# Altium footprint library GCMLibreriasPCB.PcbLib: 49 footprints (part 1 of 4)
Each footprint in its own frame and in the unit in brackets; x right, y up, seen from the top. Pads: shape width x height; smd on the part's side, far side on the other; paste and mask are expansions set on the pad; w line width, h text height; cw(c..) or ccw(c..) is an arc to the next point about the centre after c.
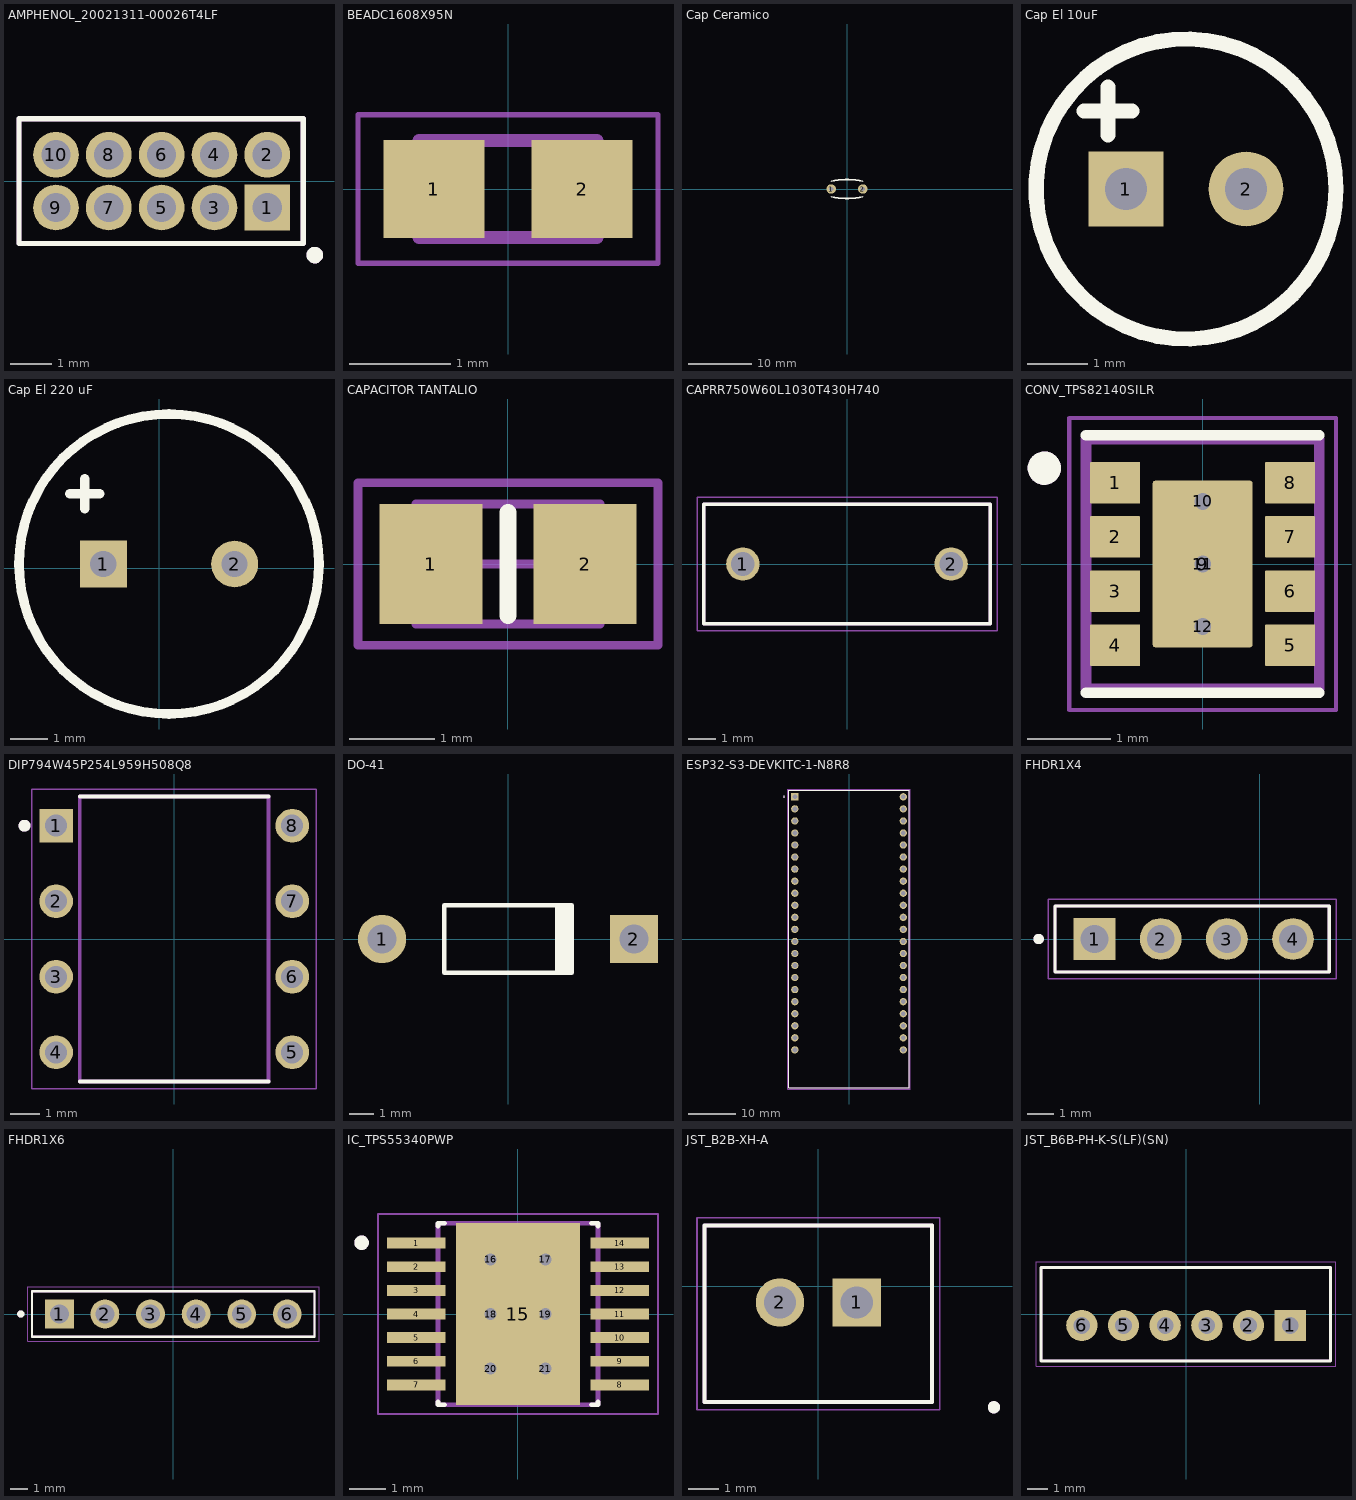
[diagram p0: the footprints below, top view; thin cyan lines are the x and y axes]

## AMPHENOL_20021311-00026T4LF [mm]
pads (10):
  rect 1.1x1.1 / inner round 1.1 / far side rect 1.1x1.1 hole 0.7: 1(7.62,-0.635)
  round 1.1 hole 0.7: 2(7.62,0.635) 3(6.35,-0.635) 4(6.35,0.635) 5(5.08,-0.635) 6(5.08,0.635) 7(3.81,-0.635) 8(3.81,0.635) 9(2.54,-0.635) 10(2.54,0.635)
Top Overlay:
  circle w0.2: c8.763,-1.778 r0.1
  lines w0.127: 1.651,-1.5 1.651,1.5 8.485,1.5 8.485,-1.5 1.651,-1.5
Mechanical 13:
  circle w0.2: c8.763,-1.778 r0.1
  lines w0.127: 1.651,-1.5 1.651,1.5 8.485,1.5 8.485,-1.5 1.651,-1.5

## BEADC1608X95N [mm]
pads (2):
  rect 1x0.97 smd: 1(-0.735,0) 2(0.735,0)
Mechanical 13:
  lines w0.127: -0.88,-0.48 0.88,-0.48 0.88,0.48 -0.88,0.48 -0.88,-0.48
Mechanical 15:
  lines w0.05: -1.485,-0.735 1.485,-0.735 1.485,0.735 -1.485,0.735 -1.485,-0.735
3D body "step_temp.STEP": height 0.95, standoff 0, extent -0.8,-0.4 0.8,0.4

## Cap Ceramico [mm]
pads (2):
  round 1.5 hole 0.7: 1(-2.5,0) 2(2.5,0)
Top Overlay:
  lines w0.254: -2.5,-1.25 ccw(c0,11.125) 2.5,-1.25 ; -2.5,1.25 cw(c0,-11.125) 2.5,1.25

## Cap El 10uF [mm]
pads (2):
  rect 1.25x1.25 hole 0.7: 1(61.5,-62.5)
  round 1.25 hole 0.7: 2(63.5,-62.5)
Top Overlay:
  circle w0.254: c62.5,-62.5 r2.5
  lines w0.254: 60.8,-61.2 61.6,-61.2 ; 61.2,-61.6 61.2,-60.8
3D body: height 1.27, standoff 0, extent 60.01,-64.98 65.01,-59.986

## Cap El 220 uF [mm]
pads (2):
  rect 1.25x1.25 hole 0.7: 1(-1.49,0.11)
  round 1.25 hole 0.7: 2(2.01,0.11)
Top Overlay:
  circle w0.254: c0.26,0.11 r4
  lines w0.254: -2.39,1.98 -1.59,1.98 ; -1.99,1.58 -1.99,2.38
3D body: height 1.27, standoff 0, extent -3.71,-3.947 4.29,4.047

## CAPACITOR TANTALIO [mm]
pads (2):
  rect 1.2x1.4 smd: 1(-0.9,0) 2(0.9,0)
Top Overlay:
  lines w0.2: 0,-0.6 0,0.6
Mechanical 13:
  lines w0.1: -1.075,-0.7 1.075,-0.7 1.075,0.7 -1.075,0.7 -1.075,-0.7
Mechanical 15:
  lines w0.1: -0.5,0 0.5,0 ; 0,-0.5 0,0.5 ; -1.75,-0.95 1.75,-0.95 1.75,0.95 -1.75,0.95 -1.75,-0.95
3D body "T494A106M010AT.STEP": height 1.8, standoff 0, extent -1.588,-0.788 1.612,0.812

## CAPRR750W60L1030T430H740 [mm]
pads (2):
  round 1.2 hole 0.85: 1(-3.75,0) 2(3.75,0)
Top Overlay:
  lines w0.127: -5.15,-2.15 -5.15,2.15 5.15,2.15 5.15,-2.15 -5.15,-2.15
Mechanical 13:
  lines w0.127: -5.15,-2.15 5.15,-2.15 5.15,2.15 -5.15,2.15 -5.15,-2.15
Mechanical 15:
  lines w0.05: -5.4,-2.4 5.4,-2.4 5.4,2.4 -5.4,2.4 -5.4,-2.4

## CONV_TPS82140SILR [mm]
pads (12):
  rrect5% 0.6x0.5 smd paste-1 mask+0: 1(-1.05,0.975) 2(-1.05,0.325) 3(-1.05,-0.325) 4(-1.05,-0.975) 5(1.05,-0.975) 6(1.05,-0.325) 7(1.05,0.325) 8(1.05,0.975)
  rrect5% 1.2x2 smd paste-2 mask+0: 9(0,0)
  round 0.3 hole 0.2 mask+0: 10(0,0.75) 11(0,0) 12(0,-0.75)
Top Overlay:
  circle w0.2: c-1.9,1.15 r0.1
  lines w0.127: -1.4,-1.545 1.4,-1.545 ; -1.4,1.545 1.4,1.545
Top Paste:
  drawing of 10 lines, arcs and shapes, not listed
Top Solder:
  drawing of 9 lines, arcs and shapes, not listed
Mechanical 13:
  circle w0.2: c-1.9,1.15 r0.1
  lines w0.127: -1.4,-1.5 1.4,-1.5 1.4,1.5 -1.4,1.5 -1.4,-1.5
Mechanical 15:
  lines w0.05: -1.6,-1.75 1.6,-1.75 1.6,1.75 -1.6,1.75 -1.6,-1.75
3D body "step_temp.STEP": height 1.53, standoff 0, extent -1.5,-1.4 1.5,1.4

## DIP794W45P254L959H508Q8 [mm]
height 5.08
pads (8):
  rect 1.13x1.13 / inner round 1.13 / far side rect 1.13x1.13 hole 0.74 mask+0.102: 1(-3.97,3.81)
  round 1.13 hole 0.74 mask+0.102: 2(-3.97,1.27) 3(-3.97,-1.27) 4(-3.97,-3.81) 5(3.97,-3.81) 6(3.97,-1.27) 7(3.97,1.27) 8(3.97,3.81)
Top Overlay:
  circle w0.2: c-5.035,3.81 r0.1
  lines w0.127: -3.175,-4.795 3.175,-4.795 ; -3.175,4.795 3.175,4.795
Mechanical 13:
  circle w0.2: c-5.035,3.81 r0.1
  lines w0.127: -3.175,-4.795 -3.175,4.795 3.175,4.795 3.175,-4.795 -3.175,-4.795
Mechanical 15:
  lines w0.05: -4.785,-5.045 -4.785,5.045 4.785,5.045 4.785,-5.045 -4.785,-5.045
3D body "step_temp.STEP": height 5.08, standoff -3.18, extent -4.095,-4.795 4.095,4.795

## DO-41 [mm] "Diode, Axial; Body 5.2 x 2.7 mm (LxDia. max), Lead Dia. 0.86 mm (max)"
height 2.8
pads (2):
  round 2 hole 1.2: 1(-5.23,0)
  rect 2x2 hole 1.2: 2(5.23,0)
Top Overlay:
  rectangle: 1.95,-1.4 2.75,1.4
  lines w0.2: 2.65,-1.4 -2.65,-1.4 -2.65,1.4 2.65,1.4

## ESP32-S3-DEVKITC-1-N8R8 [mm]
pads (44):
  rect 1.53x1.53 / inner round 1.53 / far side rect 1.53x1.53 hole 1.02: J1_1(-11.43,29.97)
  round 1.53 hole 1.02: J1_2(-11.43,27.43) J1_3(-11.43,24.89) J1_4(-11.43,22.35) J1_5(-11.43,19.81) J1_6(-11.43,17.27) J1_7(-11.43,14.73) J1_8(-11.43,12.19) J1_9(-11.43,9.65) J1_10(-11.43,7.11) J1_11(-11.43,4.57) J1_12(-11.43,2.03) J1_13(-11.43,-0.51) J1_14(-11.43,-3.05) J1_15(-11.43,-5.59) J1_16(-11.43,-8.13) J1_17(-11.43,-10.67) J1_18(-11.43,-13.21) J1_19(-11.43,-15.75) J1_20(-11.43,-18.29) J1_21(-11.43,-20.83) J1_22(-11.43,-23.37) J3_1(11.43,29.97) J3_2(11.43,27.43) J3_3(11.43,24.89) J3_4(11.43,22.35) J3_5(11.43,19.81) J3_6(11.43,17.27) J3_7(11.43,14.73) J3_8(11.43,12.19) J3_9(11.43,9.65) J3_10(11.43,7.11) J3_11(11.43,4.57) J3_12(11.43,2.03) J3_13(11.43,-0.51) J3_14(11.43,-3.05) J3_15(11.43,-5.59) J3_16(11.43,-8.13) J3_17(11.43,-10.67) J3_18(11.43,-13.21) J3_19(11.43,-15.75) J3_20(11.43,-18.29) J3_21(11.43,-20.83) J3_22(11.43,-23.37)
Top Overlay:
  circle w0.2: c-13.716,29.972 r0.1
  lines w0.127: -12.7,-31.37 -12.7,31.37 12.7,31.37 12.7,-31.37 -12.7,-31.37
Mechanical 13:
  circle w0.2: c-13.716,29.972 r0.1
  lines w0.127: -12.7,-31.37 -12.7,31.37 12.7,31.37 12.7,-31.37 -12.7,-31.37
Mechanical 15:
  lines w0.05: -12.95,-31.62 -12.95,31.62 12.95,31.62 12.95,-31.62 -12.95,-31.62
3D body "step_temp.STEP": height 7.39, standoff -6, extent -12.7,-31.96 12.7,37.68

## FHDR1X4 [mm]
pads (4):
  rect 1.605x1.605 / inner round 1.605 / far side rect 1.605x1.605 hole 1.07: 1(-6.35,0)
  round 1.605 hole 1.07: 2(-3.81,0) 3(-1.27,0) 4(1.27,0)
Top Overlay:
  circle w0.2: c-8.5,0 r0.1
  lines w0.127: -7.87,-1.27 2.667,-1.27 2.667,1.27 -7.87,1.27 -7.87,-1.27
Mechanical 13:
  circle w0.2: c-8.5,0 r0.1
  lines w0.127: -7.87,-1.27 2.667,-1.27 2.667,1.27 -7.87,1.27 -7.87,-1.27
Mechanical 15:
  lines w0.05: -8.12,-1.52 2.921,-1.52 2.921,1.52 -8.12,1.52 -8.12,-1.52

## FHDR1X6 [mm]
pads (6):
  rect 1.605x1.605 / inner round 1.605 / far side rect 1.605x1.605 hole 1.07: 1(-6.35,0)
  round 1.605 hole 1.07: 2(-3.81,0) 3(-1.27,0) 4(1.27,0) 5(3.81,0) 6(6.35,0)
Top Overlay:
  circle w0.2: c-8.5,0 r0.1
  lines w0.127: -7.87,-1.27 7.87,-1.27 7.87,1.27 -7.87,1.27 -7.87,-1.27
Mechanical 13:
  circle w0.2: c-8.5,0 r0.1
  lines w0.127: -7.87,-1.27 7.87,-1.27 7.87,1.27 -7.87,1.27 -7.87,-1.27
Mechanical 15:
  lines w0.05: -8.12,-1.52 8.12,-1.52 8.12,1.52 -8.12,1.52 -8.12,-1.52
3D body "step_temp.STEP": height 8.51, standoff -3.2, extent -7.874,-1.27 7.874,1.27

## IC_TPS55340PWP [mm]
pads (21):
  rect 1.6x0.3 smd paste-0.025: 1(-2.8,1.95) 2(-2.8,1.3) 3(-2.8,0.65) 4(-2.8,0) 5(-2.8,-0.65) 6(-2.8,-1.3) 7(-2.8,-1.95) 8(2.8,-1.95) 9(2.8,-1.3) 10(2.8,-0.65) 11(2.8,0) 12(2.8,0.65) 13(2.8,1.3) 14(2.8,1.95)
  rect 3.4x5 smd paste-3 mask+0: 15(0,0)
  round 0.43 hole 0.33 mask+0: 16(-0.75,1.5) 17(0.75,1.5) 18(-0.75,0) 19(0.75,0) 20(-0.75,-1.5) 21(0.75,-1.5)
Top Overlay:
  circle w0.2: c-4.3,1.96 r0.1
  lines w0.127: -2.2,-2.42 -2.2,-2.5 -2.02,-2.5 ; -2.2,2.42 -2.2,2.5 -2.02,2.5 ; 2.02,-2.5 2.2,-2.5 2.2,-2.42 ; 2.02,2.5 2.2,2.5 2.2,2.42
Top Paste:
  region: 1.23,-1.155 -1.23,-1.155 -1.23,1.155 1.23,1.155
Top Solder:
  region: 1.23,-1.155 -1.23,-1.155 -1.23,1.155 1.23,1.155
Mechanical 13:
  circle w0.2: c-4.3,1.96 r0.1
  lines w0.127: -2.2,-2.5 -2.2,2.5 2.2,2.5 2.2,-2.5 -2.2,-2.5
Mechanical 15:
  lines w0.05: -3.85,-2.75 -3.85,2.75 3.85,2.75 3.85,-2.75 -3.85,-2.75
3D body "step_temp.STEP": height 1.2, standoff 0, extent -3.2,-2.5 3.2,2.5

## JST_B2B-XH-A [mm]
height 7
pads (2):
  rect 1.575x1.575 / inner round 1.575 / far side rect 1.575x1.575 hole 1.05: 1(1.25,-0.525)
  round 1.575 hole 1.05: 2(-1.25,-0.525)
Top Overlay:
  circle w0.2: c5.715,-3.937 r0.1
  lines w0.127: -3.7,-3.764 -3.7,1.986 3.7,1.986 3.7,-3.764 -3.7,-3.764
Mechanical 13:
  circle w0.2: c5.715,-3.937 r0.1
  lines w0.127: -3.7,-3.764 -3.7,1.986 3.7,1.986 3.7,-3.764 -3.7,-3.764
Mechanical 15:
  lines w0.05: -3.95,-4.014 3.95,-4.014 3.95,2.236 -3.95,2.236 -3.95,-4.014
3D body "B2B-XH-A--3DModel-STEP-56544.STEP": height 7, standoff -3.4, extent -3.683,-4.064 3.717,1.686

## JST_B6B-PH-K-S(LF)(SN) [mm]
height 6
pads (6):
  rect 1.5x1.5 hole 0.8: 1(5,-0.55)
  round 1.5 hole 0.8: 2(3,-0.55) 3(1,-0.55) 4(-1,-0.55) 5(-3,-0.55) 6(-5,-0.55)
Top Overlay:
  lines w0.153: -6.96,-2.261 -6.96,2.235 6.934,2.235 6.934,-2.261 -6.96,-2.261
Mechanical 13:
  lines w0.127: -6.95,-2.25 -6.95,2.25 6.95,2.25 6.95,-2.25 -6.95,-2.25
Mechanical 15:
  lines w0.05: -7.2,-2.5 -7.2,2.5 7.2,2.5 7.2,-2.5 -7.2,-2.5
3D body "B6B-PH-K-S-LF--SN---3DModel-STEP-56544.STEP": height 6, standoff -3.4, extent -6.95,-2.25 6.95,2.25